# Altium footprint library OSTTE040104.PcbLib: 1 footprints
Each footprint in its own frame and in the unit in brackets; x right, y up, seen from the top. Pads: shape width x height; smd on the part's side, far side on the other; paste and mask are expansions set on the pad; w line width, h text height; cw(c..) or ccw(c..) is an arc to the next point about the centre after c.
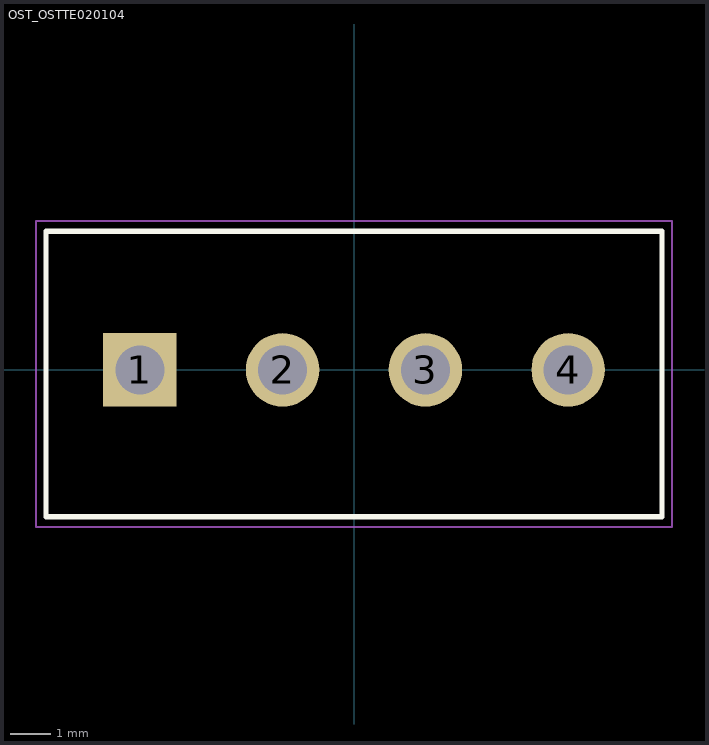
[diagram p0: the footprint, top view; thin cyan lines are the x and y axes]

## OST_OSTTE020104 [mm]
pads (4):
  rect 1.8x1.8 hole 1.2: 1(-5.25,0)
  round 1.8 hole 1.2: 2(-1.75,0) 3(1.75,0) 4(5.25,0)
Top Overlay:
  lines w0.127: -0.55,-3.6 7.55,-3.6 7.55,3.4 -0.55,3.4 ; 0.55,-3.6 -7.55,-3.6 -7.55,3.4 0.55,3.4
Mechanical 15:
  lines w0.05: -0.8,-3.85 7.8,-3.85 7.8,3.65 -0.8,3.65 ; 0.8,-3.85 -7.8,-3.85 -7.8,3.65 0.8,3.65
3D body "step_temp.STEP": height 8.4, standoff -3.8, extent -0.5,-3.5 7.5,3.5
3D body "step_temp.STEP": height 8.4, standoff -3.8, extent -7.5,-3.5 0.5,3.5